# Altium footprint library PCB - POWER INDUCTORS - TAIYO YUDEN NRS5030.PcbLib: 1 footprints
Each footprint in its own frame and in the unit in brackets; x right, y up, seen from the top. Pads: shape width x height; smd on the part's side, far side on the other; paste and mask are expansions set on the pad; w line width, h text height; cw(c..) or ccw(c..) is an arc to the next point about the centre after c.
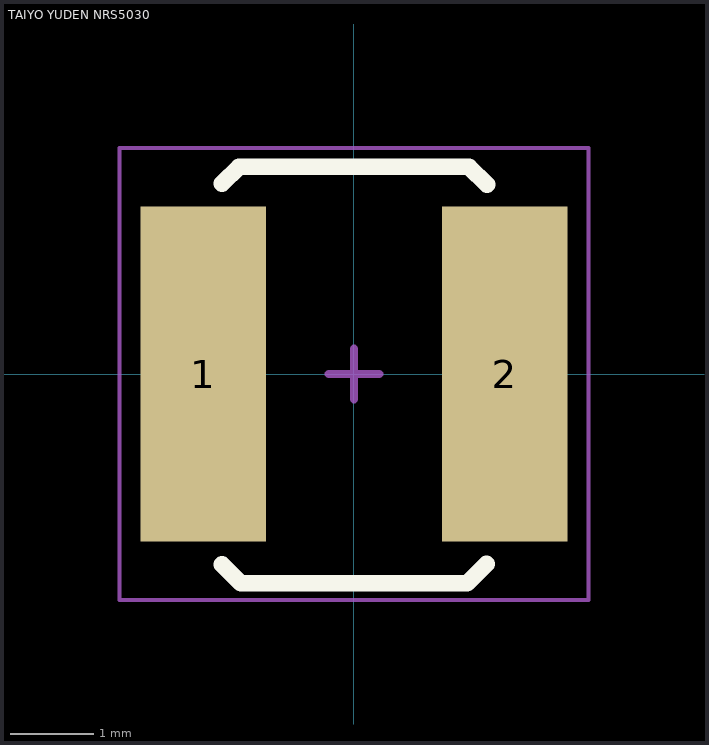
[diagram p0: the footprint, top view; thin cyan lines are the x and y axes]

## TAIYO YUDEN NRS5030 [mm] "Inductor, 2-Leads,Taiyo Yuden, NRS5030T4R7MMGJV"
height 3
pads (2):
  rect 1.5x4 smd: 1(-1.8,0) 2(1.8,0)
Top Overlay:
  lines w0.2: -1.575,-2.275 -1.35,-2.5 1.35,-2.5 1.581,-2.269 ; -1.575,2.275 -1.375,2.475 1.375,2.475 1.587,2.262
Mechanical 15 (Mech15):
  lines w0.05: -2.8,-2.7 -2.8,2.7 2.8,2.7 2.8,-2.7 -2.8,-2.7
  lines w0.1: -0.3,0 0.3,0 ; 0,-0.3 0,0.3
3D body "Taiyo Yuden - NRS5030.step": height 3, standoff 0, extent -2.5,-2.5 2.5,2.5